# EAGLE library part LPC824M201JHI33 (library NXP_By_element14_Batch_1)
32-bit ARM Cortex-M0 microcontroller up to 32 kB flash and 8 kB SRAM
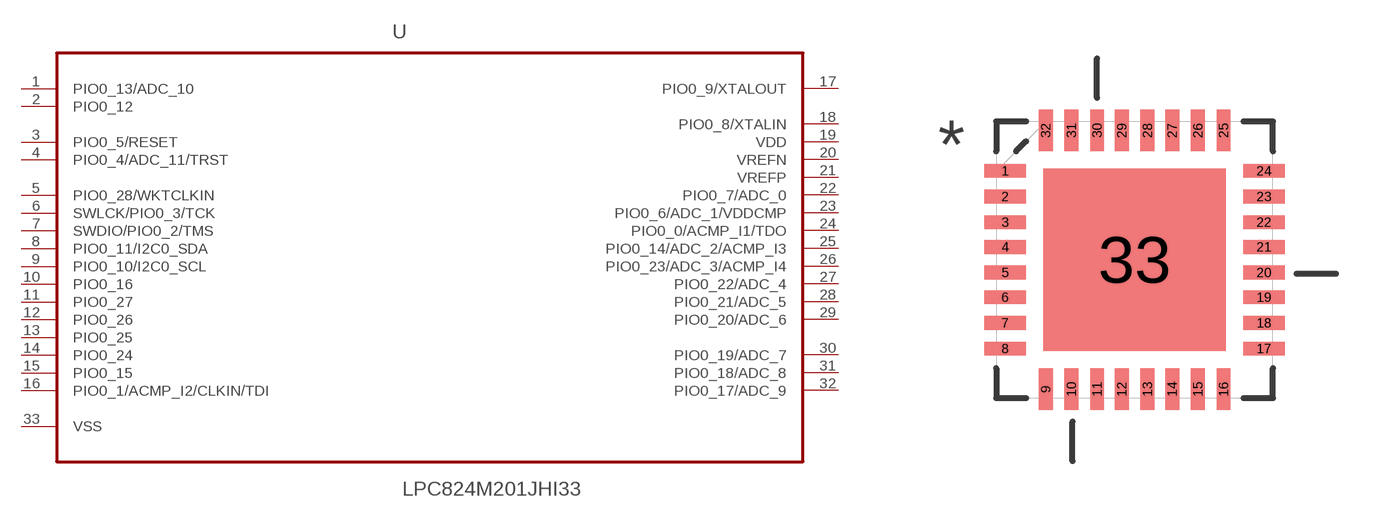
[diagram p318: symbol with the pads of QFN65P700X700X100-33N; footprint QFN65P700X700X100-33N]

Designator prefix U

## LPC824M201JHI33 (MPN: LPC1114FHN33/201,5; OC_FARNELL: -; OC_NEWARK: 70R5584; PACKAGE: HVQFN-32; SUPPLIER: NXP)  [QFN65P700X700X100-33N]
1  PIO0_13/ADC_10
2  PIO0_12
3  PIO0_5/RESET
4  PIO0_4/ADC_11/TRST
5  PIO0_28/WKTCLKIN
6  SWLCK/PIO0_3/TCK  nc
7  SWDIO/PIO0_2/TMS  nc
8  PIO0_11/I2C0_SDA
9  PIO0_10/I2C0_SCL
10  PIO0_16
11  PIO0_27
12  PIO0_26
13  PIO0_25
14  PIO0_24
15  PIO0_15  nc
16  PIO0_1/ACMP_I2/CLKIN/TDI  nc
17  PIO0_9/XTALOUT  nc
18  PIO0_8/XTALIN
19  VDD  pwr
20  VREFN  pwr
21  VREFP  pwr
22  PIO0_7/ADC_0
23  PIO0_6/ADC_1/VDDCMP
24  PIO0_0/ACMP_I1/TDO
25  PIO0_14/ADC_2/ACMP_I3
26  PIO0_23/ADC_3/ACMP_I4
27  PIO0_22/ADC_4
28  PIO0_21/ADC_5
29  PIO0_20/ADC_6
30  PIO0_19/ADC_7
31  PIO0_18/ADC_8
32  PIO0_17/ADC_9
33  VSS  pas

## Footprint QFN65P700X700X100-33N (pad centres in mm)
smd 1.067 x 0.356: 1 -3.327,2.286; 2 -3.327,1.626; 3 -3.327,0.965; 4 -3.327,0.33; 5 -3.327,-0.33; 6 -3.327,-0.965; 7 -3.327,-1.626; 8 -3.327,-2.286; 17 3.327,-2.286; 18 3.327,-1.626; 19 3.327,-0.965; 20 3.327,-0.33; 21 3.327,0.33; 22 3.327,0.965; 23 3.327,1.626; 24 3.327,2.286
smd 0.356 x 1.067: 9 -2.286,-3.327; 10 -1.626,-3.327; 11 -0.965,-3.327; 12 -0.33,-3.327; 13 0.33,-3.327; 14 0.965,-3.327; 15 1.626,-3.327; 16 2.286,-3.327; 25 2.286,3.327; 26 1.626,3.327; 27 0.965,3.327; 28 0.33,3.327; 29 -0.33,3.327; 30 -0.965,3.327; 31 -1.626,3.327; 32 -2.286,3.327
smd 4.699 x 4.699: 33 0,0